# Altium integrated library Linear Technology Power Management Switching Regulator LTC1174-LTC3901.IntLib: 2647 symbols (part 67 of 364)
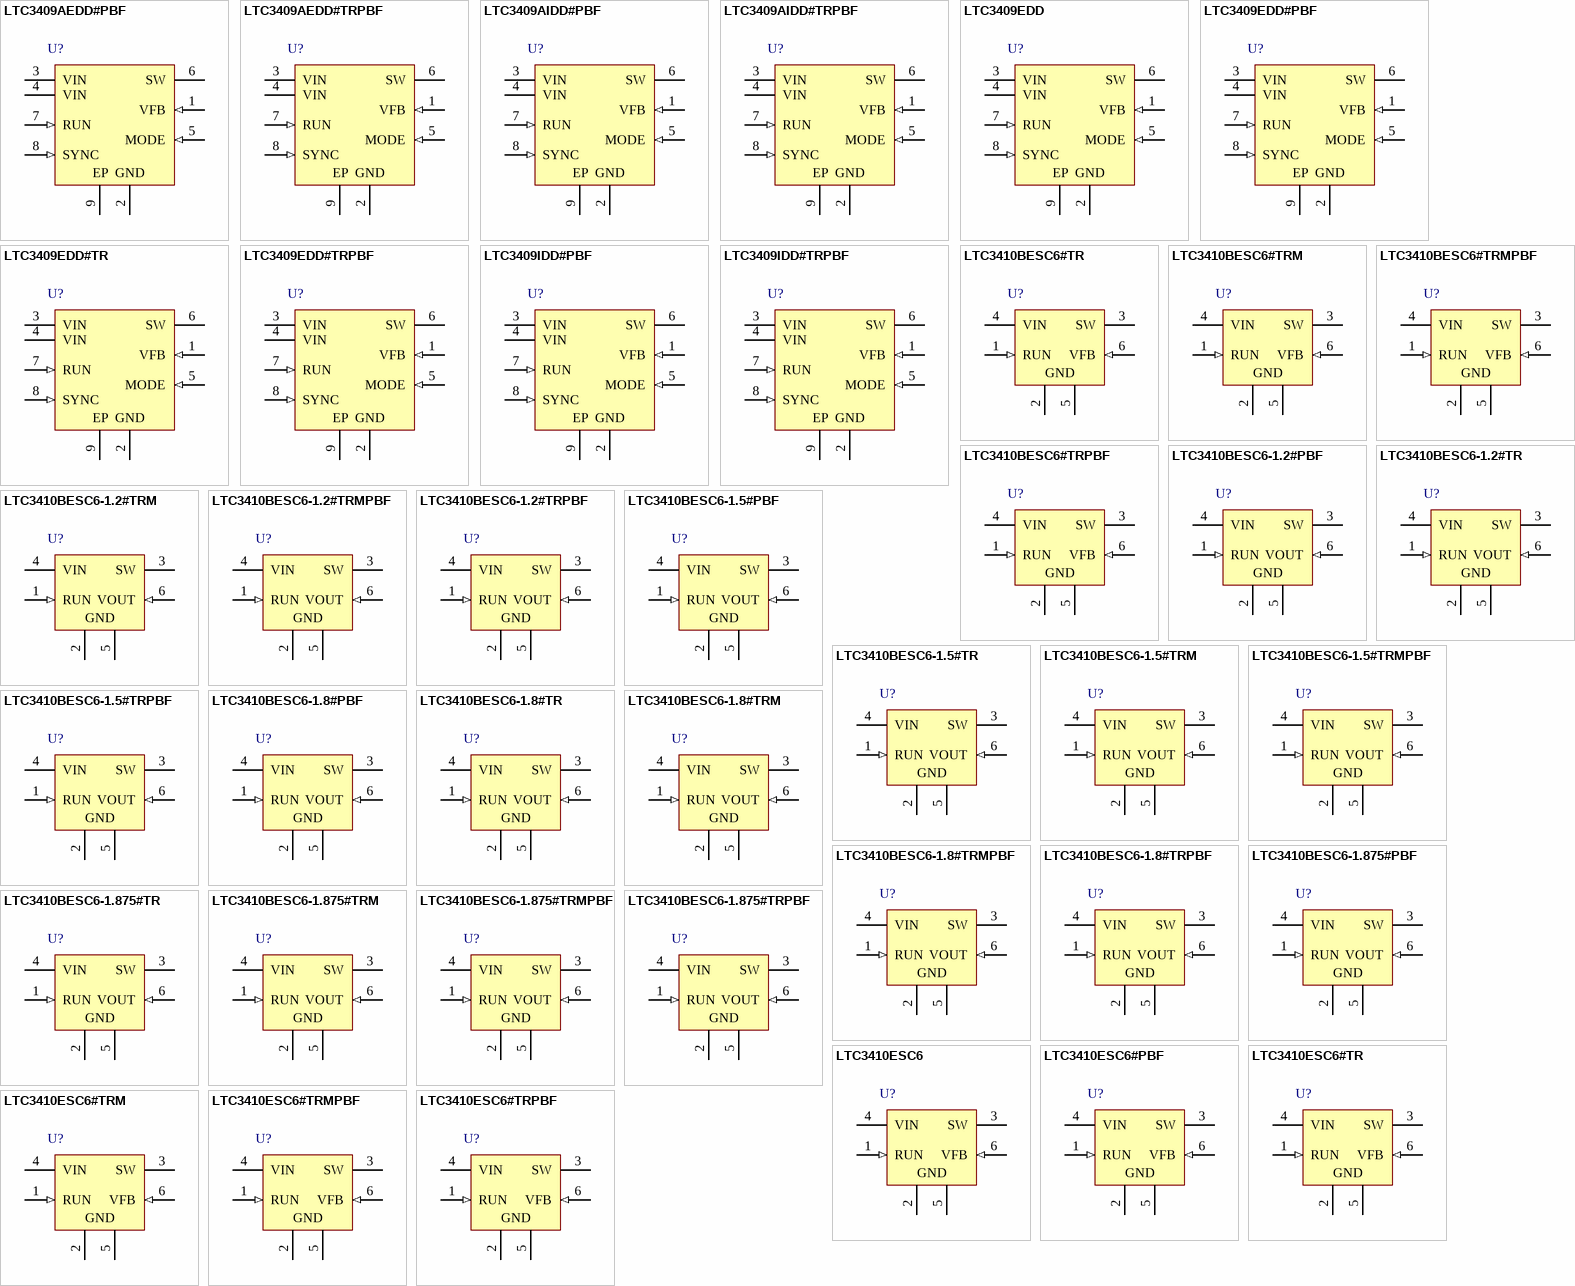
[diagram p249: symbols LTC3409AEDD#PBF to LTC3410ESC6#TRPBF]

## LTC3410BESC6-1.875#TRMPBF
designator U?
2.25 MHz, 300 mA Synchronous Step-Down Regulator, 6-pin SOT23 (SC6-6), -40 to 85 degC, Pb-Free, Mini Tape and Reel; Manufacturer: Linear Technology; PartNumber: LTC3410BESC6-1.875#TRMPBF; Number of Outputs: 1; DatasheetVersion: Rev. A; PackageVersion: Rev. B, 06/2010; PackageReference: SC6-6; PackageDescription: 6-Pin Plastic SC70, Body 2 x 1.25 mm, Pitch 0.65 mm; Supplier 1: Digi-Key; Supplier Part Number 1: LTC3410BESC6-1.875#TRMPBF-ND; Packing: Mini Tape and Reel; RoHS: TRUE; Mounting Technology: Surface Mount; Code_JEDEC: MO-203; ComponentLink1Description: Manufacturer URL; ComponentLink1URL: http://www.linear.com/; ComponentLink2Description: Datasheet; ComponentLink2URL: http://cds.linear.com/docs/en/datasheet/3410bfa.pdf; ComponentLink3Description: Package Specification; ComponentLink3URL: http://cds.linear.com/docs/en/packaging/SOT_6_05-08-1638.pdf
footprint LT-SC6-6-SC70_N (SOT23, 6-Leads, Body 2.2x1.35mm, Pitch 0.65mm, IPC Medium Density)
footprint LT-SC6-6-SC70_L (SOT23, 6-Leads, Body 2.2x1.35mm, Pitch 0.65mm, IPC High Density)
footprint LT-SC6-6-SC70_M (SOT23, 6-Leads, Body 2.2x1.35mm, Pitch 0.65mm, IPC Low Density)
pins: 1 RUN (in) "Run Control Input. Forcing this pin above 1.5V enables the part. Forcing this pin below 0.3V shuts down the device. In shutdown, all functions are disabled drawing <1uA supply current. Do not leave RUN floating.", 2 GND (power) "Ground Pin.", 3 SW (power) "Switch Node Connection to Inductor. This pin connects to the drains of the internal main and synchronous power MOSFET switches.", 4 VIN (power) "Main Supply Pin. Must be closely decoupled to GND, Pin 2, with a 2.2uF or greater ceramic capacitor.", 5 GND (power) "Ground Pin.", 6 VOUT (in) "Output Voltage Feedback Pin."

## LTC3410BESC6-1.875#TRPBF
designator U?
2.25 MHz, 300 mA Synchronous Step-Down Regulator, 6-pin SOT23 (SC6-6), -40 to 85 degC, Pb-Free, Tape and Reel; Manufacturer: Linear Technology; PartNumber: LTC3410BESC6-1.875#TRPBF; Number of Outputs: 1; DatasheetVersion: Rev. A; PackageVersion: Rev. B, 06/2010; PackageReference: SC6-6; PackageDescription: 6-Pin Plastic SC70, Body 2 x 1.25 mm, Pitch 0.65 mm; Supplier 1: Digi-Key; Supplier Part Number 1: LTC3410BESC6-1.875#TRPBF-ND; Packing: Tape and Reel; RoHS: TRUE; Mounting Technology: Surface Mount; Code_JEDEC: MO-203; ComponentLink1Description: Manufacturer URL; ComponentLink1URL: http://www.linear.com/; ComponentLink2Description: Datasheet; ComponentLink2URL: http://cds.linear.com/docs/en/datasheet/3410bfa.pdf; ComponentLink3Description: Package Specification; ComponentLink3URL: http://cds.linear.com/docs/en/packaging/SOT_6_05-08-1638.pdf
footprint LT-SC6-6-SC70_N (SOT23, 6-Leads, Body 2.2x1.35mm, Pitch 0.65mm, IPC Medium Density)
footprint LT-SC6-6-SC70_L (SOT23, 6-Leads, Body 2.2x1.35mm, Pitch 0.65mm, IPC High Density)
footprint LT-SC6-6-SC70_M (SOT23, 6-Leads, Body 2.2x1.35mm, Pitch 0.65mm, IPC Low Density)
pins: 1 RUN (in) "Run Control Input. Forcing this pin above 1.5V enables the part. Forcing this pin below 0.3V shuts down the device. In shutdown, all functions are disabled drawing <1uA supply current. Do not leave RUN floating.", 2 GND (power) "Ground Pin.", 3 SW (power) "Switch Node Connection to Inductor. This pin connects to the drains of the internal main and synchronous power MOSFET switches.", 4 VIN (power) "Main Supply Pin. Must be closely decoupled to GND, Pin 2, with a 2.2uF or greater ceramic capacitor.", 5 GND (power) "Ground Pin.", 6 VOUT (in) "Output Voltage Feedback Pin."

## LTC3410ESC6
designator U?
2.25 MHz, 300 mA Synchronous Step-Down Regulator, 6-pin SOT23 (SC6-6), -40 to 85 degC; Manufacturer: Linear Technology; PartNumber: LTC3410ESC6; Number of Outputs: 1; DatasheetVersion: Rev. B; PackageVersion: Rev. B, 06/2010; PackageReference: SC6-6; PackageDescription: 6-Pin Plastic SC70, Body 2 x 1.25 mm, Pitch 0.65 mm; RoHS: FALSE; Mounting Technology: Surface Mount; Code_JEDEC: MO-203; ComponentLink1Description: Manufacturer URL; ComponentLink1URL: http://www.linear.com/; ComponentLink2Description: Datasheet; ComponentLink2URL: http://cds.linear.com/docs/en/datasheet/3410fb.pdf; ComponentLink3Description: Package Specification; ComponentLink3URL: http://cds.linear.com/docs/en/packaging/SOT_6_05-08-1638.pdf
footprint LT-SC6-6-SC70_N (SOT23, 6-Leads, Body 2.2x1.35mm, Pitch 0.65mm, IPC Medium Density)
footprint LT-SC6-6-SC70_L (SOT23, 6-Leads, Body 2.2x1.35mm, Pitch 0.65mm, IPC High Density)
footprint LT-SC6-6-SC70_M (SOT23, 6-Leads, Body 2.2x1.35mm, Pitch 0.65mm, IPC Low Density)
pins: 1 RUN (in) "Run Control Input. Forcing this pin above 1.5V enables the part. Forcing this pin below 0.3V shuts down the device. In shutdown, all functions are disabled drawing <1uA supply current. Do not leave RUN floating.", 2 GND (power) "Ground Pin.", 3 SW (power) "Switch Node Connection to Inductor. This pin connects to the drains of the internal main and synchronous power MOSFET switches.", 4 VIN (power) "Main Supply Pin. Must be closely decoupled to GND, Pin 2, with a 2.2uF or greater ceramic capacitor.", 5 GND (power) "Ground Pin.", 6 VFB (in) "Feedback Pin. Receives the feedback voltage from an external resistive divider across the output."

## LTC3410ESC6#PBF
designator U?
2.25 MHz, 300 mA Synchronous Step-Down Regulator, 6-pin SOT23 (SC6-6), -40 to 85 degC, Pb-Free; Manufacturer: Linear Technology; PartNumber: LTC3410ESC6#PBF; Number of Outputs: 1; DatasheetVersion: Rev. B; PackageVersion: Rev. B, 06/2010; PackageReference: SC6-6; PackageDescription: 6-Pin Plastic SC70, Body 2 x 1.25 mm, Pitch 0.65 mm; Supplier 1: Farnell; Supplier Part Number 1: 2295037; Supplier 2: Newark; Supplier Part Number 2: 78T3188; RoHS: TRUE; Mounting Technology: Surface Mount; Code_JEDEC: MO-203; ComponentLink1Description: Manufacturer URL; ComponentLink1URL: http://www.linear.com/; ComponentLink2Description: Datasheet; ComponentLink2URL: http://cds.linear.com/docs/en/datasheet/3410fb.pdf; ComponentLink3Description: Package Specification; ComponentLink3URL: http://cds.linear.com/docs/en/packaging/SOT_6_05-08-1638.pdf
footprint LT-SC6-6-SC70_N (SOT23, 6-Leads, Body 2.2x1.35mm, Pitch 0.65mm, IPC Medium Density)
footprint LT-SC6-6-SC70_L (SOT23, 6-Leads, Body 2.2x1.35mm, Pitch 0.65mm, IPC High Density)
footprint LT-SC6-6-SC70_M (SOT23, 6-Leads, Body 2.2x1.35mm, Pitch 0.65mm, IPC Low Density)
pins: 1 RUN (in) "Run Control Input. Forcing this pin above 1.5V enables the part. Forcing this pin below 0.3V shuts down the device. In shutdown, all functions are disabled drawing <1uA supply current. Do not leave RUN floating.", 2 GND (power) "Ground Pin.", 3 SW (power) "Switch Node Connection to Inductor. This pin connects to the drains of the internal main and synchronous power MOSFET switches.", 4 VIN (power) "Main Supply Pin. Must be closely decoupled to GND, Pin 2, with a 2.2uF or greater ceramic capacitor.", 5 GND (power) "Ground Pin.", 6 VFB (in) "Feedback Pin. Receives the feedback voltage from an external resistive divider across the output."

## LTC3410ESC6#TR
designator U?
2.25 MHz, 300 mA Synchronous Step-Down Regulator, 6-pin SOT23 (SC6-6), -40 to 85 degC, Tape and Reel; Manufacturer: Linear Technology; PartNumber: LTC3410ESC6#TR; Number of Outputs: 1; DatasheetVersion: Rev. B; PackageVersion: Rev. B, 06/2010; PackageReference: SC6-6; PackageDescription: 6-Pin Plastic SC70, Body 2 x 1.25 mm, Pitch 0.65 mm; Packing: Tape and Reel; RoHS: FALSE; Mounting Technology: Surface Mount; Code_JEDEC: MO-203; ComponentLink1Description: Manufacturer URL; ComponentLink1URL: http://www.linear.com/; ComponentLink2Description: Datasheet; ComponentLink2URL: http://cds.linear.com/docs/en/datasheet/3410fb.pdf; ComponentLink3Description: Package Specification; ComponentLink3URL: http://cds.linear.com/docs/en/packaging/SOT_6_05-08-1638.pdf
footprint LT-SC6-6-SC70_N (SOT23, 6-Leads, Body 2.2x1.35mm, Pitch 0.65mm, IPC Medium Density)
footprint LT-SC6-6-SC70_L (SOT23, 6-Leads, Body 2.2x1.35mm, Pitch 0.65mm, IPC High Density)
footprint LT-SC6-6-SC70_M (SOT23, 6-Leads, Body 2.2x1.35mm, Pitch 0.65mm, IPC Low Density)
pins: 1 RUN (in) "Run Control Input. Forcing this pin above 1.5V enables the part. Forcing this pin below 0.3V shuts down the device. In shutdown, all functions are disabled drawing <1uA supply current. Do not leave RUN floating.", 2 GND (power) "Ground Pin.", 3 SW (power) "Switch Node Connection to Inductor. This pin connects to the drains of the internal main and synchronous power MOSFET switches.", 4 VIN (power) "Main Supply Pin. Must be closely decoupled to GND, Pin 2, with a 2.2uF or greater ceramic capacitor.", 5 GND (power) "Ground Pin.", 6 VFB (in) "Feedback Pin. Receives the feedback voltage from an external resistive divider across the output."

## LTC3410ESC6#TRM
designator U?
2.25 MHz, 300 mA Synchronous Step-Down Regulator, 6-pin SOT23 (SC6-6), -40 to 85 degC, Mini Tape and Reel; Manufacturer: Linear Technology; PartNumber: LTC3410ESC6#TRM; Number of Outputs: 1; DatasheetVersion: Rev. B; PackageVersion: Rev. B, 06/2010; PackageReference: SC6-6; PackageDescription: 6-Pin Plastic SC70, Body 2 x 1.25 mm, Pitch 0.65 mm; Packing: Mini Tape and Reel; RoHS: FALSE; Mounting Technology: Surface Mount; Code_JEDEC: MO-203; ComponentLink1Description: Manufacturer URL; ComponentLink1URL: http://www.linear.com/; ComponentLink2Description: Datasheet; ComponentLink2URL: http://cds.linear.com/docs/en/datasheet/3410fb.pdf; ComponentLink3Description: Package Specification; ComponentLink3URL: http://cds.linear.com/docs/en/packaging/SOT_6_05-08-1638.pdf
footprint LT-SC6-6-SC70_N (SOT23, 6-Leads, Body 2.2x1.35mm, Pitch 0.65mm, IPC Medium Density)
footprint LT-SC6-6-SC70_L (SOT23, 6-Leads, Body 2.2x1.35mm, Pitch 0.65mm, IPC High Density)
footprint LT-SC6-6-SC70_M (SOT23, 6-Leads, Body 2.2x1.35mm, Pitch 0.65mm, IPC Low Density)
pins: 1 RUN (in) "Run Control Input. Forcing this pin above 1.5V enables the part. Forcing this pin below 0.3V shuts down the device. In shutdown, all functions are disabled drawing <1uA supply current. Do not leave RUN floating.", 2 GND (power) "Ground Pin.", 3 SW (power) "Switch Node Connection to Inductor. This pin connects to the drains of the internal main and synchronous power MOSFET switches.", 4 VIN (power) "Main Supply Pin. Must be closely decoupled to GND, Pin 2, with a 2.2uF or greater ceramic capacitor.", 5 GND (power) "Ground Pin.", 6 VFB (in) "Feedback Pin. Receives the feedback voltage from an external resistive divider across the output."

## LTC3410ESC6#TRMPBF
designator U?
2.25 MHz, 300 mA Synchronous Step-Down Regulator, 6-pin SOT23 (SC6-6), -40 to 85 degC, Pb-Free, Mini Tape and Reel; Manufacturer: Linear Technology; PartNumber: LTC3410ESC6#TRMPBF; Number of Outputs: 1; DatasheetVersion: Rev. B; PackageVersion: Rev. B, 06/2010; PackageReference: SC6-6; PackageDescription: 6-Pin Plastic SC70, Body 2 x 1.25 mm, Pitch 0.65 mm; Supplier 1: Digi-Key; Supplier Part Number 1: LTC3410ESC6#TRMPBFTR-ND; Supplier 2: Digi-Key; Supplier Part Number 2: LTC3410ESC6#TRMPBFCT-ND; Supplier 3: Digi-Key; Supplier Part Number 3: LTC3410ESC6#TRMPBFDKR-ND; Supplier 4: Newark; Supplier Part Number 4: 56M7678; Packing: Mini Tape and Reel; RoHS: TRUE; Mounting Technology: Surface Mount; Code_JEDEC: MO-203; ComponentLink1Description: Manufacturer URL; ComponentLink1URL: http://www.linear.com/; ComponentLink2Description: Datasheet; ComponentLink2URL: http://cds.linear.com/docs/en/datasheet/3410fb.pdf; ComponentLink3Description: Package Specification; ComponentLink3URL: http://cds.linear.com/docs/en/packaging/SOT_6_05-08-1638.pdf
footprint LT-SC6-6-SC70_N (SOT23, 6-Leads, Body 2.2x1.35mm, Pitch 0.65mm, IPC Medium Density)
footprint LT-SC6-6-SC70_L (SOT23, 6-Leads, Body 2.2x1.35mm, Pitch 0.65mm, IPC High Density)
footprint LT-SC6-6-SC70_M (SOT23, 6-Leads, Body 2.2x1.35mm, Pitch 0.65mm, IPC Low Density)
pins: 1 RUN (in) "Run Control Input. Forcing this pin above 1.5V enables the part. Forcing this pin below 0.3V shuts down the device. In shutdown, all functions are disabled drawing <1uA supply current. Do not leave RUN floating.", 2 GND (power) "Ground Pin.", 3 SW (power) "Switch Node Connection to Inductor. This pin connects to the drains of the internal main and synchronous power MOSFET switches.", 4 VIN (power) "Main Supply Pin. Must be closely decoupled to GND, Pin 2, with a 2.2uF or greater ceramic capacitor.", 5 GND (power) "Ground Pin.", 6 VFB (in) "Feedback Pin. Receives the feedback voltage from an external resistive divider across the output."

## LTC3410ESC6#TRPBF
designator U?
2.25 MHz, 300 mA Synchronous Step-Down Regulator, 6-pin SOT23 (SC6-6), -40 to 85 degC, Pb-Free, Tape and Reel; Manufacturer: Linear Technology; PartNumber: LTC3410ESC6#TRPBF; Number of Outputs: 1; DatasheetVersion: Rev. B; PackageVersion: Rev. B, 06/2010; PackageReference: SC6-6; PackageDescription: 6-Pin Plastic SC70, Body 2 x 1.25 mm, Pitch 0.65 mm; Supplier 1: Digi-Key; Supplier Part Number 1: LTC3410ESC6#TRPBF-ND; Supplier 2: Newark; Supplier Part Number 2: 56M7679; Packing: Tape and Reel; RoHS: TRUE; Mounting Technology: Surface Mount; Code_JEDEC: MO-203; ComponentLink1Description: Manufacturer URL; ComponentLink1URL: http://www.linear.com/; ComponentLink2Description: Datasheet; ComponentLink2URL: http://cds.linear.com/docs/en/datasheet/3410fb.pdf; ComponentLink3Description: Package Specification; ComponentLink3URL: http://cds.linear.com/docs/en/packaging/SOT_6_05-08-1638.pdf
footprint LT-SC6-6-SC70_N (SOT23, 6-Leads, Body 2.2x1.35mm, Pitch 0.65mm, IPC Medium Density)
footprint LT-SC6-6-SC70_L (SOT23, 6-Leads, Body 2.2x1.35mm, Pitch 0.65mm, IPC High Density)
footprint LT-SC6-6-SC70_M (SOT23, 6-Leads, Body 2.2x1.35mm, Pitch 0.65mm, IPC Low Density)
pins: 1 RUN (in) "Run Control Input. Forcing this pin above 1.5V enables the part. Forcing this pin below 0.3V shuts down the device. In shutdown, all functions are disabled drawing <1uA supply current. Do not leave RUN floating.", 2 GND (power) "Ground Pin.", 3 SW (power) "Switch Node Connection to Inductor. This pin connects to the drains of the internal main and synchronous power MOSFET switches.", 4 VIN (power) "Main Supply Pin. Must be closely decoupled to GND, Pin 2, with a 2.2uF or greater ceramic capacitor.", 5 GND (power) "Ground Pin.", 6 VFB (in) "Feedback Pin. Receives the feedback voltage from an external resistive divider across the output."

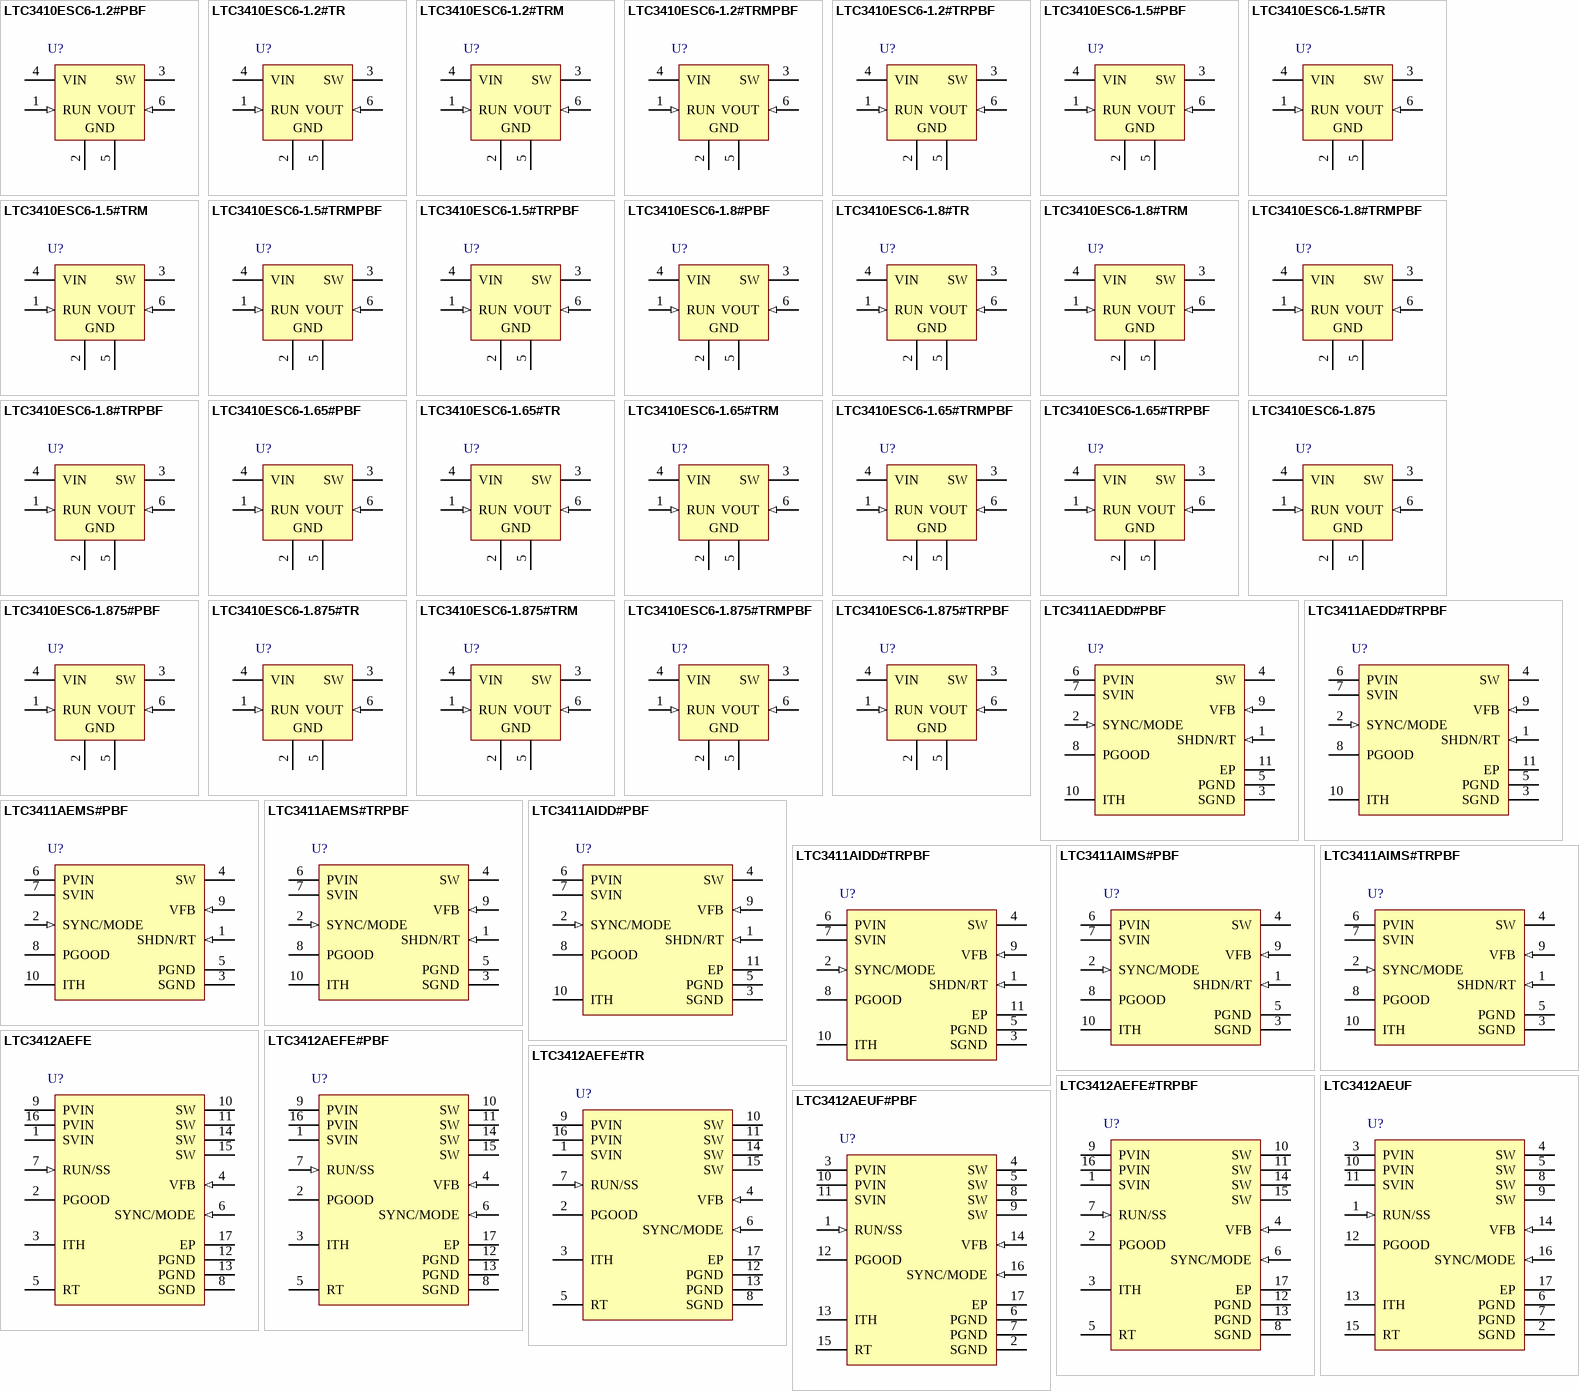
[diagram p21: symbols LTC3410ESC6-1.2#PBF to LTC3412AEUF#PBF]

## LTC3410ESC6-1.2#PBF
designator U?
2.25 MHz, 300 mA Synchronous Step-Down Regulator, 6-pin SOT23 (SC6-6), -40 to 85 degC, Pb-Free; Manufacturer: Linear Technology; PartNumber: LTC3410ESC6-1.2#PBF; Number of Outputs: 1; DatasheetVersion: Rev. B; PackageVersion: Rev. B, 06/2010; PackageReference: SC6-6; PackageDescription: 6-Pin Plastic SC70, Body 2 x 1.25 mm, Pitch 0.65 mm; RoHS: TRUE; Mounting Technology: Surface Mount; Code_JEDEC: MO-203; ComponentLink1Description: Manufacturer URL; ComponentLink1URL: http://www.linear.com/; ComponentLink2Description: Datasheet; ComponentLink2URL: http://cds.linear.com/docs/en/datasheet/3410fb.pdf; ComponentLink3Description: Package Specification; ComponentLink3URL: http://cds.linear.com/docs/en/packaging/SOT_6_05-08-1638.pdf
footprint LT-SC6-6-SC70_N (SOT23, 6-Leads, Body 2.2x1.35mm, Pitch 0.65mm, IPC Medium Density)
footprint LT-SC6-6-SC70_L (SOT23, 6-Leads, Body 2.2x1.35mm, Pitch 0.65mm, IPC High Density)
footprint LT-SC6-6-SC70_M (SOT23, 6-Leads, Body 2.2x1.35mm, Pitch 0.65mm, IPC Low Density)
pins: 1 RUN (in) "Run Control Input. Forcing this pin above 1.5V enables the part. Forcing this pin below 0.3V shuts down the device. In shutdown, all functions are disabled drawing <1uA supply current. Do not leave RUN floating.", 2 GND (power) "Ground Pin.", 3 SW (power) "Switch Node Connection to Inductor. This pin connects to the drains of the internal main and synchronous power MOSFET switches.", 4 VIN (power) "Main Supply Pin. Must be closely decoupled to GND, Pin 2, with a 2.2uF or greater ceramic capacitor.", 5 GND (power) "Ground Pin.", 6 VOUT (in) "Output Voltage Feedback Pin."

## LTC3410ESC6-1.2#TR
designator U?
2.25 MHz, 300 mA Synchronous Step-Down Regulator, 6-pin SOT23 (SC6-6), -40 to 85 degC, Tape and Reel; Manufacturer: Linear Technology; PartNumber: LTC3410ESC6-1.2#TR; Number of Outputs: 1; DatasheetVersion: Rev. B; PackageVersion: Rev. B, 06/2010; PackageReference: SC6-6; PackageDescription: 6-Pin Plastic SC70, Body 2 x 1.25 mm, Pitch 0.65 mm; Packing: Tape and Reel; RoHS: FALSE; Mounting Technology: Surface Mount; Code_JEDEC: MO-203; ComponentLink1Description: Manufacturer URL; ComponentLink1URL: http://www.linear.com/; ComponentLink2Description: Datasheet; ComponentLink2URL: http://cds.linear.com/docs/en/datasheet/3410fb.pdf; ComponentLink3Description: Package Specification; ComponentLink3URL: http://cds.linear.com/docs/en/packaging/SOT_6_05-08-1638.pdf
footprint LT-SC6-6-SC70_N (SOT23, 6-Leads, Body 2.2x1.35mm, Pitch 0.65mm, IPC Medium Density)
footprint LT-SC6-6-SC70_L (SOT23, 6-Leads, Body 2.2x1.35mm, Pitch 0.65mm, IPC High Density)
footprint LT-SC6-6-SC70_M (SOT23, 6-Leads, Body 2.2x1.35mm, Pitch 0.65mm, IPC Low Density)
pins: 1 RUN (in) "Run Control Input. Forcing this pin above 1.5V enables the part. Forcing this pin below 0.3V shuts down the device. In shutdown, all functions are disabled drawing <1uA supply current. Do not leave RUN floating.", 2 GND (power) "Ground Pin.", 3 SW (power) "Switch Node Connection to Inductor. This pin connects to the drains of the internal main and synchronous power MOSFET switches.", 4 VIN (power) "Main Supply Pin. Must be closely decoupled to GND, Pin 2, with a 2.2uF or greater ceramic capacitor.", 5 GND (power) "Ground Pin.", 6 VOUT (in) "Output Voltage Feedback Pin."

## LTC3410ESC6-1.2#TRM
designator U?
2.25 MHz, 300 mA Synchronous Step-Down Regulator, 6-pin SOT23 (SC6-6), -40 to 85 degC, Mini Tape and Reel; Manufacturer: Linear Technology; PartNumber: LTC3410ESC6-1.2#TRM; Number of Outputs: 1; DatasheetVersion: Rev. B; PackageVersion: Rev. B, 06/2010; PackageReference: SC6-6; PackageDescription: 6-Pin Plastic SC70, Body 2 x 1.25 mm, Pitch 0.65 mm; Packing: Mini Tape and Reel; RoHS: FALSE; Mounting Technology: Surface Mount; Code_JEDEC: MO-203; ComponentLink1Description: Manufacturer URL; ComponentLink1URL: http://www.linear.com/; ComponentLink2Description: Datasheet; ComponentLink2URL: http://cds.linear.com/docs/en/datasheet/3410fb.pdf; ComponentLink3Description: Package Specification; ComponentLink3URL: http://cds.linear.com/docs/en/packaging/SOT_6_05-08-1638.pdf
footprint LT-SC6-6-SC70_N (SOT23, 6-Leads, Body 2.2x1.35mm, Pitch 0.65mm, IPC Medium Density)
footprint LT-SC6-6-SC70_L (SOT23, 6-Leads, Body 2.2x1.35mm, Pitch 0.65mm, IPC High Density)
footprint LT-SC6-6-SC70_M (SOT23, 6-Leads, Body 2.2x1.35mm, Pitch 0.65mm, IPC Low Density)
pins: 1 RUN (in) "Run Control Input. Forcing this pin above 1.5V enables the part. Forcing this pin below 0.3V shuts down the device. In shutdown, all functions are disabled drawing <1uA supply current. Do not leave RUN floating.", 2 GND (power) "Ground Pin.", 3 SW (power) "Switch Node Connection to Inductor. This pin connects to the drains of the internal main and synchronous power MOSFET switches.", 4 VIN (power) "Main Supply Pin. Must be closely decoupled to GND, Pin 2, with a 2.2uF or greater ceramic capacitor.", 5 GND (power) "Ground Pin.", 6 VOUT (in) "Output Voltage Feedback Pin."

## LTC3410ESC6-1.2#TRMPBF
designator U?
2.25 MHz, 300 mA Synchronous Step-Down Regulator, 6-pin SOT23 (SC6-6), -40 to 85 degC, Pb-Free, Mini Tape and Reel; Manufacturer: Linear Technology; PartNumber: LTC3410ESC6-1.2#TRMPBF; Number of Outputs: 1; DatasheetVersion: Rev. B; PackageVersion: Rev. B, 06/2010; PackageReference: SC6-6; PackageDescription: 6-Pin Plastic SC70, Body 2 x 1.25 mm, Pitch 0.65 mm; Supplier 1: Digi-Key; Supplier Part Number 1: LTC3410ESC6-1.2#TRMPBF-ND; Packing: Mini Tape and Reel; RoHS: TRUE; Mounting Technology: Surface Mount; Code_JEDEC: MO-203; ComponentLink1Description: Manufacturer URL; ComponentLink1URL: http://www.linear.com/; ComponentLink2Description: Datasheet; ComponentLink2URL: http://cds.linear.com/docs/en/datasheet/3410fb.pdf; ComponentLink3Description: Package Specification; ComponentLink3URL: http://cds.linear.com/docs/en/packaging/SOT_6_05-08-1638.pdf
footprint LT-SC6-6-SC70_N (SOT23, 6-Leads, Body 2.2x1.35mm, Pitch 0.65mm, IPC Medium Density)
footprint LT-SC6-6-SC70_L (SOT23, 6-Leads, Body 2.2x1.35mm, Pitch 0.65mm, IPC High Density)
footprint LT-SC6-6-SC70_M (SOT23, 6-Leads, Body 2.2x1.35mm, Pitch 0.65mm, IPC Low Density)
pins: 1 RUN (in) "Run Control Input. Forcing this pin above 1.5V enables the part. Forcing this pin below 0.3V shuts down the device. In shutdown, all functions are disabled drawing <1uA supply current. Do not leave RUN floating.", 2 GND (power) "Ground Pin.", 3 SW (power) "Switch Node Connection to Inductor. This pin connects to the drains of the internal main and synchronous power MOSFET switches.", 4 VIN (power) "Main Supply Pin. Must be closely decoupled to GND, Pin 2, with a 2.2uF or greater ceramic capacitor.", 5 GND (power) "Ground Pin.", 6 VOUT (in) "Output Voltage Feedback Pin."

## LTC3410ESC6-1.2#TRPBF
designator U?
2.25 MHz, 300 mA Synchronous Step-Down Regulator, 6-pin SOT23 (SC6-6), -40 to 85 degC, Pb-Free, Tape and Reel; Manufacturer: Linear Technology; PartNumber: LTC3410ESC6-1.2#TRPBF; Number of Outputs: 1; DatasheetVersion: Rev. B; PackageVersion: Rev. B, 06/2010; PackageReference: SC6-6; PackageDescription: 6-Pin Plastic SC70, Body 2 x 1.25 mm, Pitch 0.65 mm; Supplier 1: Digi-Key; Supplier Part Number 1: LTC3410ESC6-1.2#TRPBF-ND; Packing: Tape and Reel; RoHS: TRUE; Mounting Technology: Surface Mount; Code_JEDEC: MO-203; ComponentLink1Description: Manufacturer URL; ComponentLink1URL: http://www.linear.com/; ComponentLink2Description: Datasheet; ComponentLink2URL: http://cds.linear.com/docs/en/datasheet/3410fb.pdf; ComponentLink3Description: Package Specification; ComponentLink3URL: http://cds.linear.com/docs/en/packaging/SOT_6_05-08-1638.pdf
footprint LT-SC6-6-SC70_N (SOT23, 6-Leads, Body 2.2x1.35mm, Pitch 0.65mm, IPC Medium Density)
footprint LT-SC6-6-SC70_L (SOT23, 6-Leads, Body 2.2x1.35mm, Pitch 0.65mm, IPC High Density)
footprint LT-SC6-6-SC70_M (SOT23, 6-Leads, Body 2.2x1.35mm, Pitch 0.65mm, IPC Low Density)
pins: 1 RUN (in) "Run Control Input. Forcing this pin above 1.5V enables the part. Forcing this pin below 0.3V shuts down the device. In shutdown, all functions are disabled drawing <1uA supply current. Do not leave RUN floating.", 2 GND (power) "Ground Pin.", 3 SW (power) "Switch Node Connection to Inductor. This pin connects to the drains of the internal main and synchronous power MOSFET switches.", 4 VIN (power) "Main Supply Pin. Must be closely decoupled to GND, Pin 2, with a 2.2uF or greater ceramic capacitor.", 5 GND (power) "Ground Pin.", 6 VOUT (in) "Output Voltage Feedback Pin."

## LTC3410ESC6-1.5#PBF
designator U?
2.25 MHz, 300 mA Synchronous Step-Down Regulator, 6-pin SOT23 (SC6-6), -40 to 85 degC, Pb-Free; Manufacturer: Linear Technology; PartNumber: LTC3410ESC6-1.5#PBF; Number of Outputs: 1; DatasheetVersion: Rev. B; PackageVersion: Rev. B, 06/2010; PackageReference: SC6-6; PackageDescription: 6-Pin Plastic SC70, Body 2 x 1.25 mm, Pitch 0.65 mm; RoHS: TRUE; Mounting Technology: Surface Mount; Code_JEDEC: MO-203; ComponentLink1Description: Manufacturer URL; ComponentLink1URL: http://www.linear.com/; ComponentLink2Description: Datasheet; ComponentLink2URL: http://cds.linear.com/docs/en/datasheet/3410fb.pdf; ComponentLink3Description: Package Specification; ComponentLink3URL: http://cds.linear.com/docs/en/packaging/SOT_6_05-08-1638.pdf
footprint LT-SC6-6-SC70_N (SOT23, 6-Leads, Body 2.2x1.35mm, Pitch 0.65mm, IPC Medium Density)
footprint LT-SC6-6-SC70_L (SOT23, 6-Leads, Body 2.2x1.35mm, Pitch 0.65mm, IPC High Density)
footprint LT-SC6-6-SC70_M (SOT23, 6-Leads, Body 2.2x1.35mm, Pitch 0.65mm, IPC Low Density)
pins: 1 RUN (in) "Run Control Input. Forcing this pin above 1.5V enables the part. Forcing this pin below 0.3V shuts down the device. In shutdown, all functions are disabled drawing <1uA supply current. Do not leave RUN floating.", 2 GND (power) "Ground Pin.", 3 SW (power) "Switch Node Connection to Inductor. This pin connects to the drains of the internal main and synchronous power MOSFET switches.", 4 VIN (power) "Main Supply Pin. Must be closely decoupled to GND, Pin 2, with a 2.2uF or greater ceramic capacitor.", 5 GND (power) "Ground Pin.", 6 VOUT (in) "Output Voltage Feedback Pin."

## LTC3410ESC6-1.5#TR
designator U?
2.25 MHz, 300 mA Synchronous Step-Down Regulator, 6-pin SOT23 (SC6-6), -40 to 85 degC, Tape and Reel; Manufacturer: Linear Technology; PartNumber: LTC3410ESC6-1.5#TR; Number of Outputs: 1; DatasheetVersion: Rev. B; PackageVersion: Rev. B, 06/2010; PackageReference: SC6-6; PackageDescription: 6-Pin Plastic SC70, Body 2 x 1.25 mm, Pitch 0.65 mm; Packing: Tape and Reel; RoHS: FALSE; Mounting Technology: Surface Mount; Code_JEDEC: MO-203; ComponentLink1Description: Manufacturer URL; ComponentLink1URL: http://www.linear.com/; ComponentLink2Description: Datasheet; ComponentLink2URL: http://cds.linear.com/docs/en/datasheet/3410fb.pdf; ComponentLink3Description: Package Specification; ComponentLink3URL: http://cds.linear.com/docs/en/packaging/SOT_6_05-08-1638.pdf
footprint LT-SC6-6-SC70_N (SOT23, 6-Leads, Body 2.2x1.35mm, Pitch 0.65mm, IPC Medium Density)
footprint LT-SC6-6-SC70_L (SOT23, 6-Leads, Body 2.2x1.35mm, Pitch 0.65mm, IPC High Density)
footprint LT-SC6-6-SC70_M (SOT23, 6-Leads, Body 2.2x1.35mm, Pitch 0.65mm, IPC Low Density)
pins: 1 RUN (in) "Run Control Input. Forcing this pin above 1.5V enables the part. Forcing this pin below 0.3V shuts down the device. In shutdown, all functions are disabled drawing <1uA supply current. Do not leave RUN floating.", 2 GND (power) "Ground Pin.", 3 SW (power) "Switch Node Connection to Inductor. This pin connects to the drains of the internal main and synchronous power MOSFET switches.", 4 VIN (power) "Main Supply Pin. Must be closely decoupled to GND, Pin 2, with a 2.2uF or greater ceramic capacitor.", 5 GND (power) "Ground Pin.", 6 VOUT (in) "Output Voltage Feedback Pin."